# Altium footprint library RES-3921.PcbLib: 1 footprints
Each footprint in its own frame and in the unit in brackets; x right, y up, seen from the top. Pads: shape width x height; smd on the part's side, far side on the other; paste and mask are expansions set on the pad; w line width, h text height; cw(c..) or ccw(c..) is an arc to the next point about the centre after c.
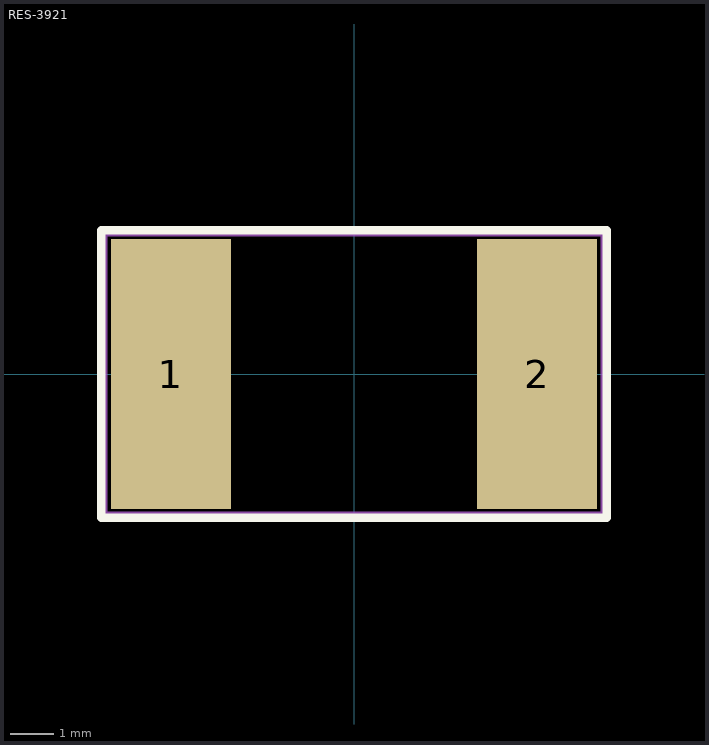
[diagram p0: the footprint, top view; thin cyan lines are the x and y axes]

## RES-3921 [mm]
height 0.55
pads (2):
  rect 2.75x6.2 smd: 1(-4.2,0) 2(4.2,0)
Top Overlay:
  lines w0.2: -5.8,-3.3 5.8,-3.3 5.8,3.3 -5.8,3.3 -5.8,-3.3
Top Assembly:
  lines w0.1: -5.7,-3.2 5.7,-3.2 5.7,3.2 -5.7,3.2 -5.7,-3.2
  text "'.Designator'" at 0,0 h0.7
3D body "User Library-WSL3921.STEP": height 0.83, standoff 0, extent -5,-2.6 5,2.6